# EAGLE library part ADG733 (library Arduino Dev Parts)
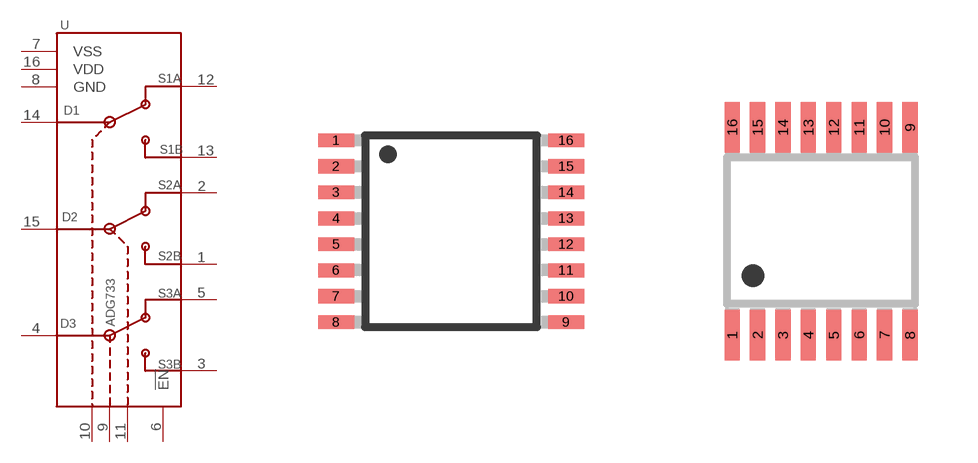
[diagram p3: symbol with the pads of TSSOP16; footprints TSSOP16, QSOP16]

Designator prefix -

## ADG733BRU (MF: ANALOG DEVICES; MPN: ADG733BRUZ; OC_FARNELL: 2102516)  [TSSOP16]
1  S2B
2  S2A
3  S3B
4  D3
5  S3A
6  !EN  in
7  VSS  pwr
8  GND  pwr
9  A2  in
10  A1  in
11  A0  in
12  S1A
13  S1B
14  D1
15  D2
16  VDD  pwr

## ADG733BRQ (MF: ANALOG DEVICES; MPN: ADG733BRQZ; OC_FARNELL: 2460621)  [QSOP16]
Pads as for TSSOP16

## Footprint TSSOP16 (pad centres in mm)
16-Lead Thin Shrink Small Outline Package [TSSOP] (RU-16) Source: 8x ADG1408_1409.pdf
smd 0.9 x 0.35: 1 -2.875,2.275; 2 -2.875,1.625; 3 -2.875,0.975; 4 -2.875,0.325; 5 -2.875,-0.325; 6 -2.875,-0.975; 7 -2.875,-1.625; 8 -2.875,-2.275; 9 2.875,-2.275; 10 2.875,-1.625; 11 2.875,-0.975; 12 2.875,-0.325; 13 2.875,0.325; 14 2.875,0.975; 15 2.875,1.625; 16 2.875,2.275

## Footprint QSOP16 (pad centres in mm)
16-Lead Shrink Small Outline Package QSOP (RQ-16) Source: ADG658_659.pdf
smd 0.381 x 1.27: 1 -2.223,-2.6; 2 -1.587,-2.6; 3 -0.953,-2.6; 4 -0.318,-2.6; 5 0.318,-2.6; 6 0.953,-2.6; 7 1.587,-2.6; 8 2.223,-2.6; 9 2.223,2.6; 10 1.587,2.6; 11 0.953,2.6; 12 0.318,2.6; 13 -0.318,2.6; 14 -0.953,2.6; 15 -1.587,2.6; 16 -2.223,2.6